# EAGLE library part VNH2SP30_MODULE (library AB_VNH2SP30_MOTOR_DRIVER_MODULE)
VNH2SP30 MODULE Created by Aadesh Borate Features : Operating voltage : 16 V Contineous output current : 14 Amp Peak current : 30 Amp Maximum PWM frequency : 20 kHz Current sense : 0.13 V/A Size : 55 mm × 28 mm Buy this module at Robu.in <https://robu.in/product/monster-moto-shield-vnh2sp30-motor-driver-14a-peak-30a/> <
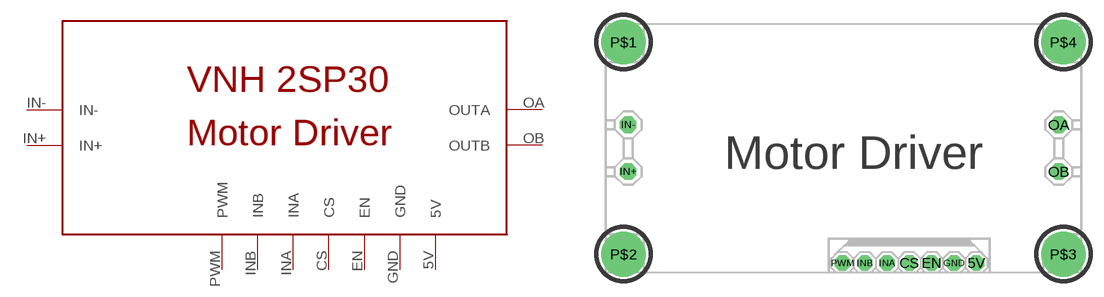
[diagram p0: symbol with the pads of VNH2SP30_MODULE; footprint VNH2SP30_MODULE]

Designator prefix -

## VNH2SP30_MODULE  [VNH2SP30_MODULE]
5V  5V
CS  CS
EN  EN
GND  GND
IN+  IN+
IN-  IN-
INA  INA
INB  INB
OA  OUTA
OB  OUTB
PWM  PWM

## Footprint VNH2SP30_MODULE (pad centres in mm)
VNH2SP30 MODULE Created by Aadesh Borate Features : Operating voltage : 16 V Contineous output current : 14 Amp Peak current : 30 Amp Maximum PWM frequency : 20 kHz Current sense : 0.13 V/A Size : 55 mm × 28 mm Buy this module at Robu.in <https://robu.in/product/monster-moto-shield-vnh2sp30-motor-driver-14a-peak-30a/> <
drill 1.168 octagon: 5V 16.002,-13.208; CS 8.382,-13.208; EN 10.922,-13.208; GND 13.462,-13.208; INA 5.842,-13.208; INB 3.302,-13.208; PWM 0.762,-13.208
drill 1.27 octagon: IN+ -23.622,-2.794; IN- -23.622,2.54; OA 25.4,2.54; OB 25.4,-2.794
drill 3.302 pad 5.08: P$1 -24.13,11.938; P$2 -24.13,-12.192; P$3 25.908,-12.192; P$4 25.908,11.938